# Altium footprint library BMP180.PcbLib: 4 footprints
Each footprint in its own frame and in the unit in brackets; x right, y up, seen from the top. Pads: shape width x height; smd on the part's side, far side on the other; paste and mask are expansions set on the pad; w line width, h text height; cw(c..) or ccw(c..) is an arc to the next point about the centre after c.
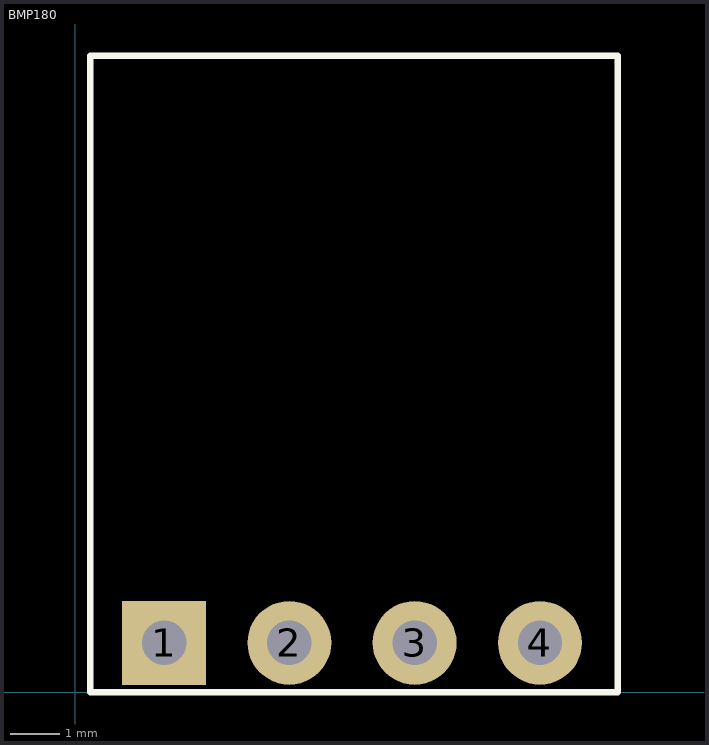
[diagram p0: the footprints below, top view; thin cyan lines are the x and y axes]

## BMP180 [mm]
pads (4):
  rect 1.7x1.7 hole 0.9 square: 1(1.8,1)
  round 1.7 hole 0.9: 2(4.34,1) 3(6.88,1) 4(9.42,1)
Top Overlay:
  lines w0.13: 0.3,0 0.3,12.9 11,12.9 11,0 0.3,0

## PCBComponent_1 [mm]

## PCBComponent_1 - duplicate [mm]

## PCBComponent_1 - duplicate1 [mm]